# EAGLE library part 2X20 (library headers(.5mm)(samtec))
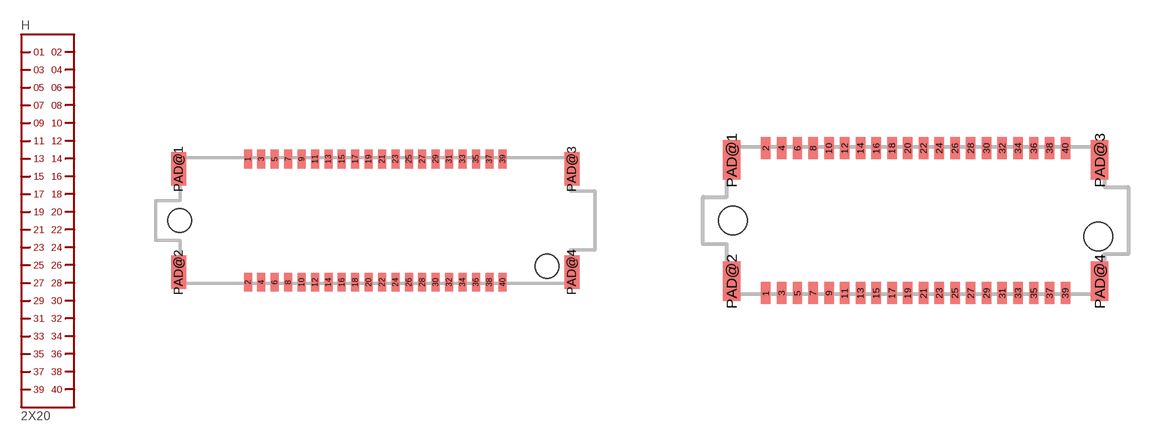
[diagram p1: symbol with the pads of SSH-020-X.XX-X-D-A; footprints SSH-020-X.XX-X-D-A, STH-020-X.XX-X-D-A]

Designator prefix H

## 2X20.SSH  [SSH-020-X.XX-X-D-A]
1  1
2  2
3  3
4  4
5  5
6  6
7  7
8  8
9  9
10  10
11  11
12  12
13  13
14  14
15  15
16  16
17  17
18  18
19  19
20  20
21  21
22  22
23  23
24  24
25  25
26  26
27  27
28  28
29  29
30  30
31  31
32  32
33  33
34  34
35  35
36  36
37  37
38  38
39  39
40  40

## 2X20.STH  [STH-020-X.XX-X-D-A]
Pads as for SSH-020-X.XX-X-D-A

## Footprint SSH-020-X.XX-X-D-A (pad centres in mm)
smd 0.3 x 0.7: 1 -4.75,2.3; 2 -4.75,-2.3; 3 -4.25,2.3; 4 -4.25,-2.3; 5 -3.75,2.3; 6 -3.75,-2.3; 7 -3.25,2.3; 8 -3.25,-2.3; 9 -2.75,2.3; 10 -2.75,-2.3; 11 -2.25,2.3; 12 -2.25,-2.3; 13 -1.75,2.3; 14 -1.75,-2.3; 15 -1.25,2.3; 16 -1.25,-2.3; 17 -0.75,2.3; 18 -0.75,-2.3; 19 -0.25,2.3; 20 -0.25,-2.3; 21 0.25,2.3; 22 0.25,-2.3; 23 0.75,2.3; 24 0.75,-2.3; 25 1.25,2.3; 26 1.25,-2.3; 27 1.75,2.3; 28 1.75,-2.3; 29 2.25,2.3; 30 2.25,-2.3; 31 2.75,2.3; 32 2.75,-2.3; 33 3.25,2.3; 34 3.25,-2.3; 35 3.75,2.3; 36 3.75,-2.3; 37 4.25,2.3; 38 4.25,-2.3; 39 4.75,2.3; 40 4.75,-2.3
smd 0.55 x 1.25: PAD@1 -7.33,1.925; PAD@2 -7.33,-1.925; PAD@3 7.33,1.925; PAD@4 7.33,-1.925
hole 0.89 at -7.3,0
hole 0.89 at 6.4,-1.7

## Footprint STH-020-X.XX-X-D-A (pad centres in mm)
smd 0.3 x 0.7: 1 -4.75,-2.3; 2 -4.75,2.3; 3 -4.25,-2.3; 4 -4.25,2.3; 5 -3.75,-2.3; 6 -3.75,2.3; 7 -3.25,-2.3; 8 -3.25,2.3; 9 -2.75,-2.3; 10 -2.75,2.3; 11 -2.25,-2.3; 12 -2.25,2.3; 13 -1.75,-2.3; 14 -1.75,2.3; 15 -1.25,-2.3; 16 -1.25,2.3; 17 -0.75,-2.3; 18 -0.75,2.3; 19 -0.25,-2.3; 20 -0.25,2.3; 21 0.25,-2.3; 22 0.25,2.3; 23 0.75,-2.3; 24 0.75,2.3; 25 1.25,-2.3; 26 1.25,2.3; 27 1.75,-2.3; 28 1.75,2.3; 29 2.25,-2.3; 30 2.25,2.3; 31 2.75,-2.3; 32 2.75,2.3; 33 3.25,-2.3; 34 3.25,2.3; 35 3.75,-2.3; 36 3.75,2.3; 37 4.25,-2.3; 38 4.25,2.3; 39 4.75,-2.3; 40 4.75,2.3
smd 0.55 x 1.25: PAD@1 -5.84,1.925; PAD@2 -5.84,-1.925; PAD@3 5.84,1.925; PAD@4 5.84,-1.925
hole 0.9 at 5.8,-0.5
hole 0.9 at -5.8,0